# EAGLE library part 24_PIN_FPC_0.5MM (library ePaper)
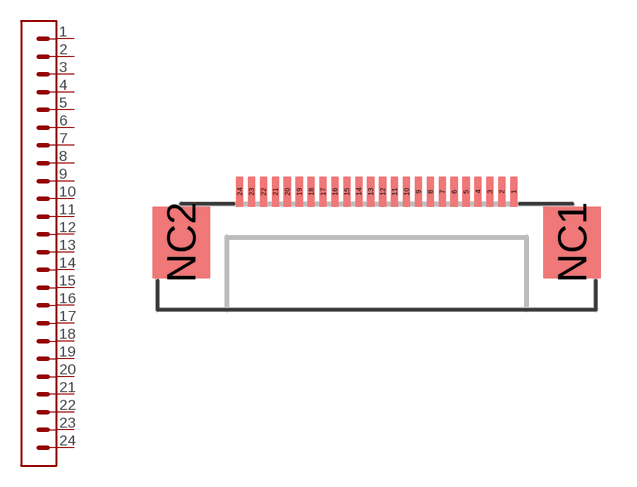
[diagram p0: symbol with the pads of 24_PIN_FPC_0.5MM; footprint 24_PIN_FPC_0.5MM]

Designator prefix J

## 24_PIN_FPC_0.5MM  [24_PIN_FPC_0.5MM]
1  1
2  2
3  3
4  4
5  5
6  6
7  7
8  8
9  9
10  10
11  11
12  12
13  13
14  14
15  15
16  16
17  17
18  18
19  19
20  20
21  21
22  22
23  23
24  24

## Footprint 24_PIN_FPC_0.5MM (pad centres in mm)
smd 0.3 x 1.25: 1 5.75,2.225; 2 5.25,2.225; 3 4.75,2.225; 4 4.25,2.225; 5 3.75,2.225; 6 3.25,2.225; 7 2.75,2.225; 8 2.25,2.225; 9 1.75,2.225; 10 1.25,2.225; 11 0.75,2.225; 12 0.25,2.225; 13 -0.25,2.225; 14 -0.75,2.225; 15 -1.25,2.225; 16 -1.75,2.225; 17 -2.25,2.225; 18 -2.75,2.225; 19 -3.25,2.225; 20 -3.75,2.225; 21 -4.25,2.225; 22 -4.75,2.225; 23 -5.25,2.225; 24 -5.75,2.225
smd 2.4 x 3: NC1 8.2,0.1; NC2 -8.2,0.1